# Altium integrated library Linear Technology Power Management LED Driver ICs.IntLib: 490 symbols (part 41 of 48)
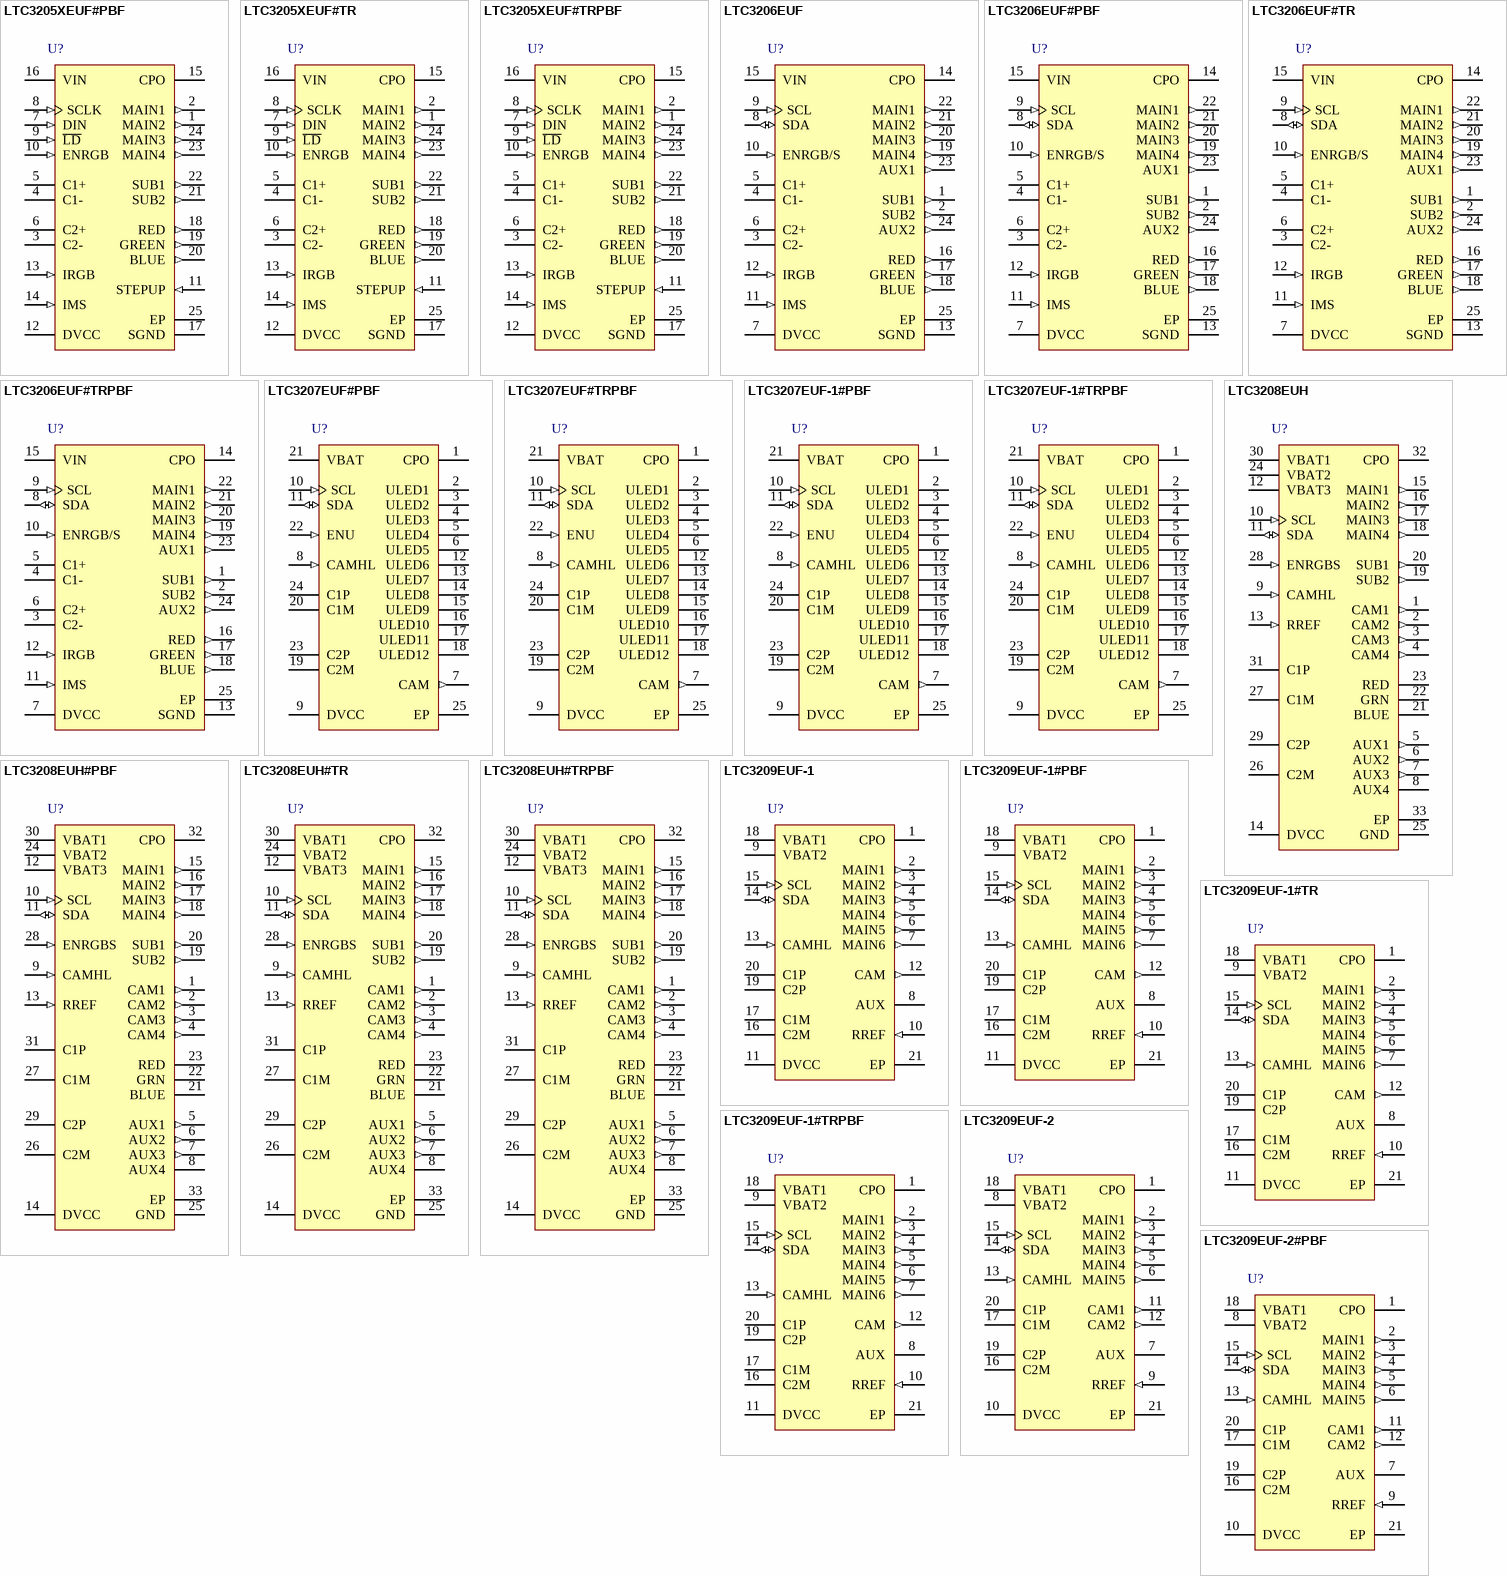
[diagram p60: symbols LTC3205XEUF#PBF to LTC3209EUF-2#PBF]

## LTC3209EUF-2
designator U?
600 mA MAIN / Camera LED Controller, 2.9 to 4.5 V Vin, 5.1 V Vout MAX, 20-pin QFN (UF-20), -40 to 85 degC; Manufacturer: Linear Technology; PartNumber: LTC3209EUF-2; Topology: Charge Pump, LED Driver; Vin Min(V): 2.9; DatasheetVersion: Rev. A; PackageVersion: Rev. A, 10/2010; PackageReference: UF20; PackageDescription: 20-Pin Plastic QFN, Body 4 x 4 mm, Pitch 0.5 mm; RoHS: FALSE; Mounting Technology: Surface Mount; Code_JEDEC: MO-220; ComponentLink1Description: Manufacturer URL; ComponentLink1URL: http://www.linear.com/; ComponentLink2Description: Datasheet; ComponentLink2URL: http://cds.linear.com/docs/en/datasheet/320912fa.pdf; ComponentLink3Description: Package Specification; ComponentLink3URL: http://cds.linear.com/docs/en/packaging/QFN_20_05-08-1710.pdf
footprint LT-UF-20_N (QFN, 20-Leads, Body 4.1x4.1mm, Pitch 0.5mm, Thermal Pad 2.45x2.45mm, IPC Medium Density)
footprint LT-UF-20_L (QFN, 20-Leads, Body 4.1x4.1mm, Pitch 0.5mm, Thermal Pad 2.45x2.45mm, IPC High Density)
footprint LT-UF-20_M (QFN, 20-Leads, Body 4.1x4.1mm, Pitch 0.5mm, Thermal Pad 2.45x2.45mm, IPC Low Density)
pins: 1 CPO (power) "Output of the Charge Pump Used to Power LEDs. A 2.2uF X5R or X7R ceramic capacitor should be connected to ground.", 2 MAIN1 (out) "Current Source Output for the MAIN Display White LED. The LEDs on the MAIN display can be set from 0mA to 28mA in 256 steps via software control and internal 8-bit linear DAC. Each output can be disabled externally by (See Datasheet)", 3 MAIN2 (out) "Current Source Output for the MAIN Display White LED. The LEDs on the MAIN display can be set from 0mA to 28mA in 256 steps via software control and internal 8-bit linear DAC. Each output can be disabled externally by (See Datasheet)", 4 MAIN3 (out) "Current Source Output for the MAIN Display White LED. The LEDs on the MAIN display can be set from 0mA to 28mA in 256 steps via software control and internal 8-bit linear DAC. Each output can be disabled externally by (See Datasheet)", 5 MAIN4 (out) "Current Source Output for the MAIN Display White LED. The LEDs on the MAIN display can be set from 0mA to 28mA in 256 steps via software control and internal 8-bit linear DAC. Each output can be disabled externally by (See Datasheet)", 6 MAIN5 (out) "Current Source Output for the MAIN Display White LED. The LEDs on the MAIN display can be set from 0mA to 28mA in 256 steps via software control and internal 8-bit linear DAC. Each output can be disabled externally by (See Datasheet)", 7 AUX (oc) "Current Source Output for the AUX Display LED. The LED current source can be set from 0mA to 13.75mA in 4 steps via software control and internal 2-bit DAC. AUX does not have dropout sensing and cannot be disabled by (See Datasheet)", 8 VBAT2 (power) "Supply Voltage for the Entire Device. Two separate pins are used to isolate the charge pump from the analog sections to reduce noise. Both pins must be connected together externally and bypassed with a single 2.2uF low ESR (See Datasheet)", 9 RREF (in) "This pin controls the maximum amount of LED current for all displays. The RREF voltage is 1.23V. An external 24.3k resistor to ground sets the reference currents for all display DACs and support circuits for nominal MAIN (See Datasheet)", 10 DVCC (power) "Supply Voltage for All Digital I/O Lines. This pin sets the logic reference level of the LTC3209-2. Decouple DVCC to GND with a 0.1uF capacitor. A UVLO circuit on the DVCC pin forces all registers to all 0s whenever DVCC is (See Datasheet)", 11 CAM1 (out) "Current Source Output for the CAM1 Display White LED. The LEDs on the two CAM displays can each be set from 0mA to 200mA in 16 steps via software control and internal 4-bit linear DAC. Two 4-bit registers are available. One (See Datasheet)", 12 CAM2 (out) "Current Source Output for the CAM2 Display White LED. The LEDs on the two CAM displays can each be set from 0mA to 200mA in 16 steps via software control and internal 4-bit linear DAC. Two 4-bit registers are available. One (See Datasheet)", 13 CAMHL (in) "This pin selects CAM high current register when asserted high and CAM low current register when low. The high to low transition automatically resets the charge pump mode to 1x.", 14 SDA (io) "I2C Data Input for the Serial Port. Serial data is shifted in one bit per clock to control the LTC3209-2. The logic level is referenced to DVCC.", 15 SCL (in) "I2C Clock Input. The logic level for SCL is referenced to DVCC.", 16 C2M "Charge Pump Flying Capacitor Pins. A 2.2uF X7R or X5R ceramic capacitor should be connected from C1P to C1M and C2P to C2M.", 17 C1M "Charge Pump Flying Capacitor Pins. A 2.2uF X7R or X5R ceramic capacitor should be connected from C1P to C1M and C2P to C2M.", 18 VBAT1 (power) "Supply Voltage for the Entire Device. Two separate pins are used to isolate the charge pump from the analog sections to reduce noise. Both pins must be connected together externally and bypassed with a single 2.2uF low ESR (See Datasheet)", 19 C2P "Charge Pump Flying Capacitor Pins. A 2.2uF X7R or X5R ceramic capacitor should be connected from C1P to C1M and C2P to C2M.", 20 C1P "Charge Pump Flying Capacitor Pins. A 2.2uF X7R or X5R ceramic capacitor should be connected from C1P to C1M and C2P to C2M.", 21 EP (power) "System Ground. Connect Exposed Pad to PCB ground plane."

## LTC3209EUF-2#PBF
designator U?
600 mA MAIN / Camera LED Controller, 2.9 to 4.5 V Vin, 5.1 V Vout MAX, 20-pin QFN (UF-20), -40 to 85 degC, Pb-Free; Manufacturer: Linear Technology; PartNumber: LTC3209EUF-2#PBF; Topology: Charge Pump, LED Driver; Vin Min(V): 2.9; DatasheetVersion: Rev. A; PackageVersion: Rev. A, 10/2010; PackageReference: UF20; PackageDescription: 20-Pin Plastic QFN, Body 4 x 4 mm, Pitch 0.5 mm; Supplier 1: Digi-Key; Supplier Part Number 1: LTC3209EUF-2#PBF-ND; RoHS: TRUE; Mounting Technology: Surface Mount; Code_JEDEC: MO-220; ComponentLink1Description: Manufacturer URL; ComponentLink1URL: http://www.linear.com/; ComponentLink2Description: Datasheet; ComponentLink2URL: http://cds.linear.com/docs/en/datasheet/320912fa.pdf; ComponentLink3Description: Package Specification; ComponentLink3URL: http://cds.linear.com/docs/en/packaging/QFN_20_05-08-1710.pdf
footprint LT-UF-20_N (QFN, 20-Leads, Body 4.1x4.1mm, Pitch 0.5mm, Thermal Pad 2.45x2.45mm, IPC Medium Density)
footprint LT-UF-20_L (QFN, 20-Leads, Body 4.1x4.1mm, Pitch 0.5mm, Thermal Pad 2.45x2.45mm, IPC High Density)
footprint LT-UF-20_M (QFN, 20-Leads, Body 4.1x4.1mm, Pitch 0.5mm, Thermal Pad 2.45x2.45mm, IPC Low Density)
pins: 1 CPO (power) "Output of the Charge Pump Used to Power LEDs. A 2.2uF X5R or X7R ceramic capacitor should be connected to ground.", 2 MAIN1 (out) "Current Source Output for the MAIN Display White LED. The LEDs on the MAIN display can be set from 0mA to 28mA in 256 steps via software control and internal 8-bit linear DAC. Each output can be disabled externally by (See Datasheet)", 3 MAIN2 (out) "Current Source Output for the MAIN Display White LED. The LEDs on the MAIN display can be set from 0mA to 28mA in 256 steps via software control and internal 8-bit linear DAC. Each output can be disabled externally by (See Datasheet)", 4 MAIN3 (out) "Current Source Output for the MAIN Display White LED. The LEDs on the MAIN display can be set from 0mA to 28mA in 256 steps via software control and internal 8-bit linear DAC. Each output can be disabled externally by (See Datasheet)", 5 MAIN4 (out) "Current Source Output for the MAIN Display White LED. The LEDs on the MAIN display can be set from 0mA to 28mA in 256 steps via software control and internal 8-bit linear DAC. Each output can be disabled externally by (See Datasheet)", 6 MAIN5 (out) "Current Source Output for the MAIN Display White LED. The LEDs on the MAIN display can be set from 0mA to 28mA in 256 steps via software control and internal 8-bit linear DAC. Each output can be disabled externally by (See Datasheet)", 7 AUX (oc) "Current Source Output for the AUX Display LED. The LED current source can be set from 0mA to 13.75mA in 4 steps via software control and internal 2-bit DAC. AUX does not have dropout sensing and cannot be disabled by (See Datasheet)", 8 VBAT2 (power) "Supply Voltage for the Entire Device. Two separate pins are used to isolate the charge pump from the analog sections to reduce noise. Both pins must be connected together externally and bypassed with a single 2.2uF low ESR (See Datasheet)", 9 RREF (in) "This pin controls the maximum amount of LED current for all displays. The RREF voltage is 1.23V. An external 24.3k resistor to ground sets the reference currents for all display DACs and support circuits for nominal MAIN (See Datasheet)", 10 DVCC (power) "Supply Voltage for All Digital I/O Lines. This pin sets the logic reference level of the LTC3209-2. Decouple DVCC to GND with a 0.1uF capacitor. A UVLO circuit on the DVCC pin forces all registers to all 0s whenever DVCC is (See Datasheet)", 11 CAM1 (out) "Current Source Output for the CAM1 Display White LED. The LEDs on the two CAM displays can each be set from 0mA to 200mA in 16 steps via software control and internal 4-bit linear DAC. Two 4-bit registers are available. One (See Datasheet)", 12 CAM2 (out) "Current Source Output for the CAM2 Display White LED. The LEDs on the two CAM displays can each be set from 0mA to 200mA in 16 steps via software control and internal 4-bit linear DAC. Two 4-bit registers are available. One (See Datasheet)", 13 CAMHL (in) "This pin selects CAM high current register when asserted high and CAM low current register when low. The high to low transition automatically resets the charge pump mode to 1x.", 14 SDA (io) "I2C Data Input for the Serial Port. Serial data is shifted in one bit per clock to control the LTC3209-2. The logic level is referenced to DVCC.", 15 SCL (in) "I2C Clock Input. The logic level for SCL is referenced to DVCC.", 16 C2M "Charge Pump Flying Capacitor Pins. A 2.2uF X7R or X5R ceramic capacitor should be connected from C1P to C1M and C2P to C2M.", 17 C1M "Charge Pump Flying Capacitor Pins. A 2.2uF X7R or X5R ceramic capacitor should be connected from C1P to C1M and C2P to C2M.", 18 VBAT1 (power) "Supply Voltage for the Entire Device. Two separate pins are used to isolate the charge pump from the analog sections to reduce noise. Both pins must be connected together externally and bypassed with a single 2.2uF low ESR (See Datasheet)", 19 C2P "Charge Pump Flying Capacitor Pins. A 2.2uF X7R or X5R ceramic capacitor should be connected from C1P to C1M and C2P to C2M.", 20 C1P "Charge Pump Flying Capacitor Pins. A 2.2uF X7R or X5R ceramic capacitor should be connected from C1P to C1M and C2P to C2M.", 21 EP (power) "System Ground. Connect Exposed Pad to PCB ground plane."

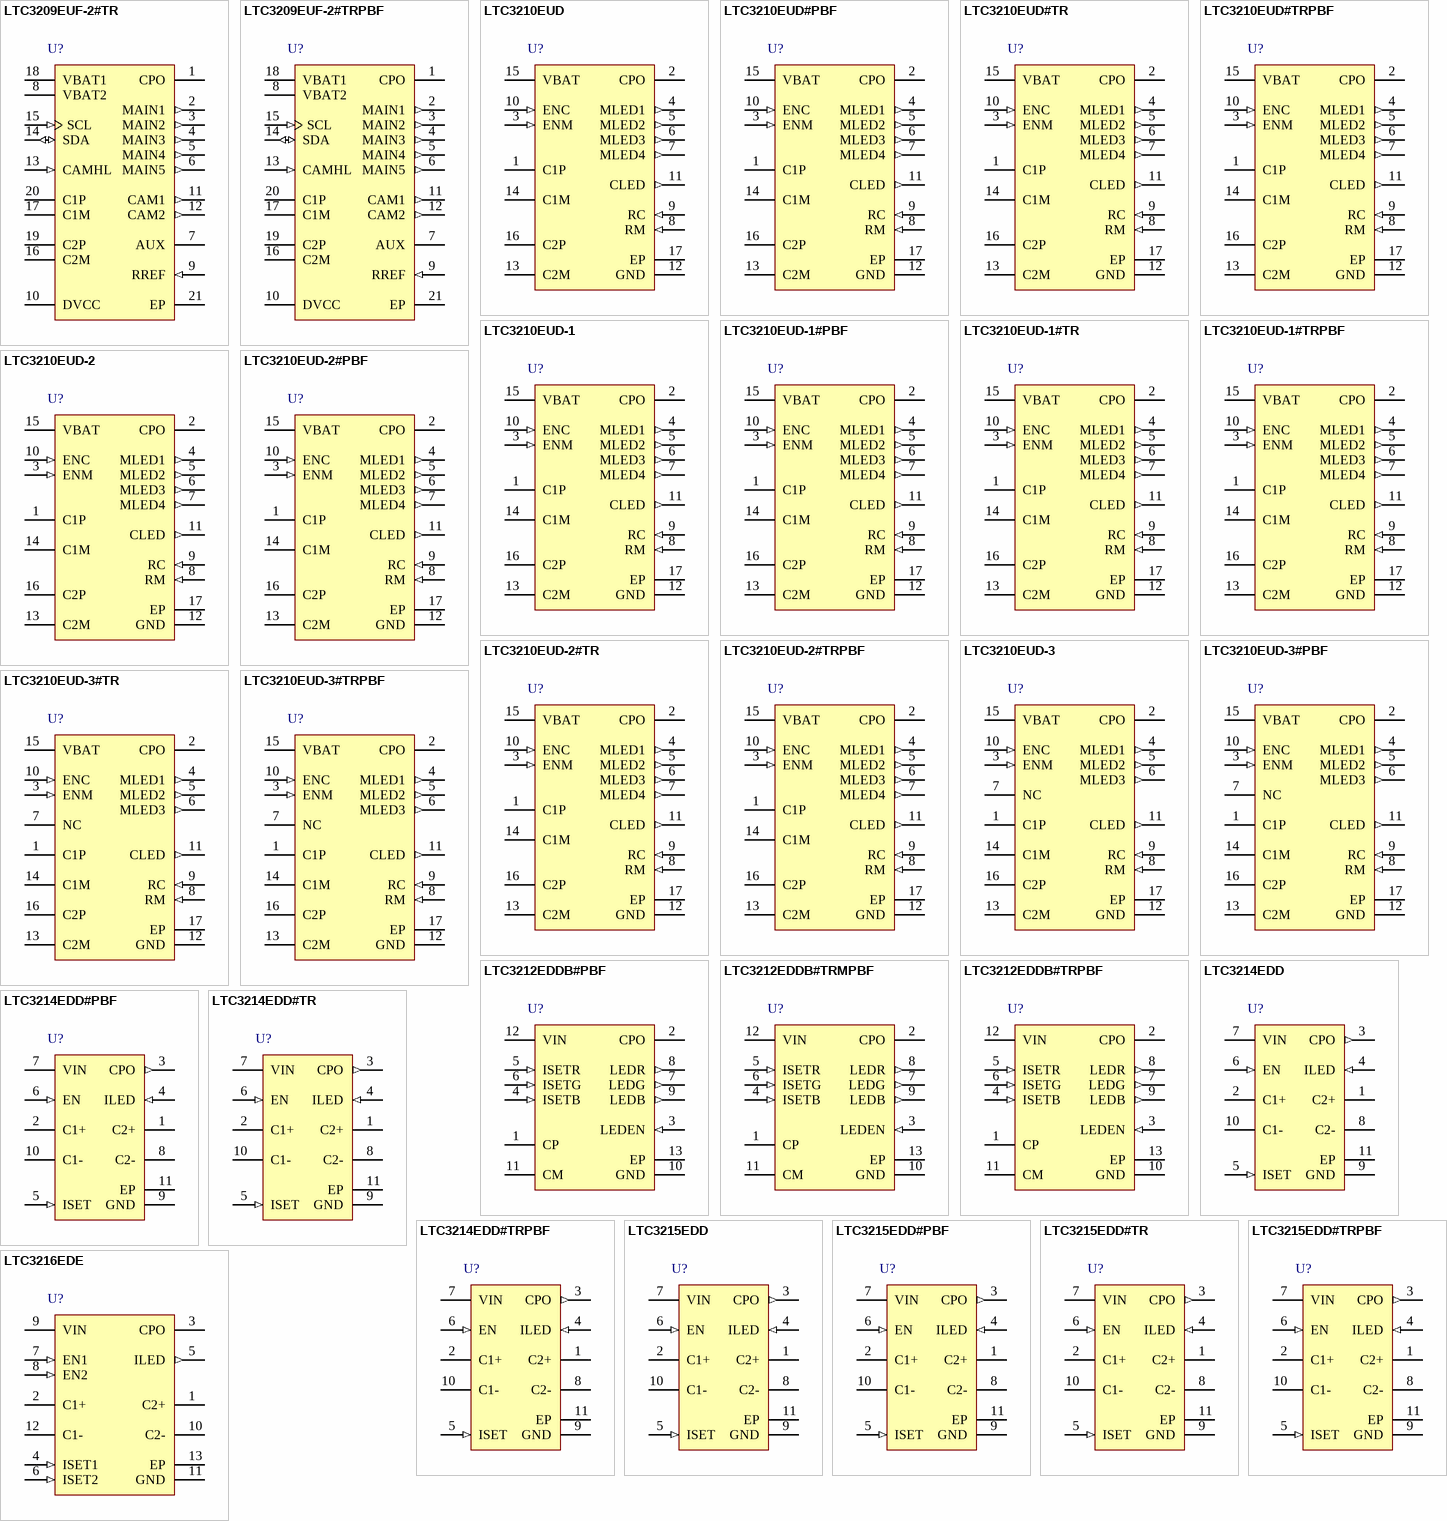
[diagram p17: symbols LTC3209EUF-2#TR to LTC3216EDE]

## LTC3209EUF-2#TR
designator U?
600 mA MAIN / Camera LED Controller, 2.9 to 4.5 V Vin, 5.1 V Vout MAX, 20-pin QFN (UF-20), -40 to 85 degC, Tape and Reel; Manufacturer: Linear Technology; PartNumber: LTC3209EUF-2#TR; Topology: Charge Pump, LED Driver; Vin Min(V): 2.9; DatasheetVersion: Rev. A; PackageVersion: Rev. A, 10/2010; PackageReference: UF20; PackageDescription: 20-Pin Plastic QFN, Body 4 x 4 mm, Pitch 0.5 mm; Packing: Tape and Reel; RoHS: FALSE; Mounting Technology: Surface Mount; Code_JEDEC: MO-220; ComponentLink1Description: Manufacturer URL; ComponentLink1URL: http://www.linear.com/; ComponentLink2Description: Datasheet; ComponentLink2URL: http://cds.linear.com/docs/en/datasheet/320912fa.pdf; ComponentLink3Description: Package Specification; ComponentLink3URL: http://cds.linear.com/docs/en/packaging/QFN_20_05-08-1710.pdf
footprint LT-UF-20_N (QFN, 20-Leads, Body 4.1x4.1mm, Pitch 0.5mm, Thermal Pad 2.45x2.45mm, IPC Medium Density)
footprint LT-UF-20_L (QFN, 20-Leads, Body 4.1x4.1mm, Pitch 0.5mm, Thermal Pad 2.45x2.45mm, IPC High Density)
footprint LT-UF-20_M (QFN, 20-Leads, Body 4.1x4.1mm, Pitch 0.5mm, Thermal Pad 2.45x2.45mm, IPC Low Density)
pins: 1 CPO (power) "Output of the Charge Pump Used to Power LEDs. A 2.2uF X5R or X7R ceramic capacitor should be connected to ground.", 2 MAIN1 (out) "Current Source Output for the MAIN Display White LED. The LEDs on the MAIN display can be set from 0mA to 28mA in 256 steps via software control and internal 8-bit linear DAC. Each output can be disabled externally by (See Datasheet)", 3 MAIN2 (out) "Current Source Output for the MAIN Display White LED. The LEDs on the MAIN display can be set from 0mA to 28mA in 256 steps via software control and internal 8-bit linear DAC. Each output can be disabled externally by (See Datasheet)", 4 MAIN3 (out) "Current Source Output for the MAIN Display White LED. The LEDs on the MAIN display can be set from 0mA to 28mA in 256 steps via software control and internal 8-bit linear DAC. Each output can be disabled externally by (See Datasheet)", 5 MAIN4 (out) "Current Source Output for the MAIN Display White LED. The LEDs on the MAIN display can be set from 0mA to 28mA in 256 steps via software control and internal 8-bit linear DAC. Each output can be disabled externally by (See Datasheet)", 6 MAIN5 (out) "Current Source Output for the MAIN Display White LED. The LEDs on the MAIN display can be set from 0mA to 28mA in 256 steps via software control and internal 8-bit linear DAC. Each output can be disabled externally by (See Datasheet)", 7 AUX (oc) "Current Source Output for the AUX Display LED. The LED current source can be set from 0mA to 13.75mA in 4 steps via software control and internal 2-bit DAC. AUX does not have dropout sensing and cannot be disabled by (See Datasheet)", 8 VBAT2 (power) "Supply Voltage for the Entire Device. Two separate pins are used to isolate the charge pump from the analog sections to reduce noise. Both pins must be connected together externally and bypassed with a single 2.2uF low ESR (See Datasheet)", 9 RREF (in) "This pin controls the maximum amount of LED current for all displays. The RREF voltage is 1.23V. An external 24.3k resistor to ground sets the reference currents for all display DACs and support circuits for nominal MAIN (See Datasheet)", 10 DVCC (power) "Supply Voltage for All Digital I/O Lines. This pin sets the logic reference level of the LTC3209-2. Decouple DVCC to GND with a 0.1uF capacitor. A UVLO circuit on the DVCC pin forces all registers to all 0s whenever DVCC is (See Datasheet)", 11 CAM1 (out) "Current Source Output for the CAM1 Display White LED. The LEDs on the two CAM displays can each be set from 0mA to 200mA in 16 steps via software control and internal 4-bit linear DAC. Two 4-bit registers are available. One (See Datasheet)", 12 CAM2 (out) "Current Source Output for the CAM2 Display White LED. The LEDs on the two CAM displays can each be set from 0mA to 200mA in 16 steps via software control and internal 4-bit linear DAC. Two 4-bit registers are available. One (See Datasheet)", 13 CAMHL (in) "This pin selects CAM high current register when asserted high and CAM low current register when low. The high to low transition automatically resets the charge pump mode to 1x.", 14 SDA (io) "I2C Data Input for the Serial Port. Serial data is shifted in one bit per clock to control the LTC3209-2. The logic level is referenced to DVCC.", 15 SCL (in) "I2C Clock Input. The logic level for SCL is referenced to DVCC.", 16 C2M "Charge Pump Flying Capacitor Pins. A 2.2uF X7R or X5R ceramic capacitor should be connected from C1P to C1M and C2P to C2M.", 17 C1M "Charge Pump Flying Capacitor Pins. A 2.2uF X7R or X5R ceramic capacitor should be connected from C1P to C1M and C2P to C2M.", 18 VBAT1 (power) "Supply Voltage for the Entire Device. Two separate pins are used to isolate the charge pump from the analog sections to reduce noise. Both pins must be connected together externally and bypassed with a single 2.2uF low ESR (See Datasheet)", 19 C2P "Charge Pump Flying Capacitor Pins. A 2.2uF X7R or X5R ceramic capacitor should be connected from C1P to C1M and C2P to C2M.", 20 C1P "Charge Pump Flying Capacitor Pins. A 2.2uF X7R or X5R ceramic capacitor should be connected from C1P to C1M and C2P to C2M.", 21 EP (power) "System Ground. Connect Exposed Pad to PCB ground plane."

## LTC3209EUF-2#TRPBF
designator U?
600 mA MAIN / Camera LED Controller, 2.9 to 4.5 V Vin, 5.1 V Vout MAX, 20-pin QFN (UF-20), -40 to 85 degC, Pb-Free, Tape and Reel; Manufacturer: Linear Technology; PartNumber: LTC3209EUF-2#TRPBF; Topology: Charge Pump, LED Driver; Vin Min(V): 2.9; DatasheetVersion: Rev. A; PackageVersion: Rev. A, 10/2010; PackageReference: UF20; PackageDescription: 20-Pin Plastic QFN, Body 4 x 4 mm, Pitch 0.5 mm; Supplier 1: Digi-Key; Supplier Part Number 1: LTC3209EUF-2#TRPBF-ND; Packing: Tape and Reel; RoHS: TRUE; Mounting Technology: Surface Mount; Code_JEDEC: MO-220; ComponentLink1Description: Manufacturer URL; ComponentLink1URL: http://www.linear.com/; ComponentLink2Description: Datasheet; ComponentLink2URL: http://cds.linear.com/docs/en/datasheet/320912fa.pdf; ComponentLink3Description: Package Specification; ComponentLink3URL: http://cds.linear.com/docs/en/packaging/QFN_20_05-08-1710.pdf
footprint LT-UF-20_N (QFN, 20-Leads, Body 4.1x4.1mm, Pitch 0.5mm, Thermal Pad 2.45x2.45mm, IPC Medium Density)
footprint LT-UF-20_L (QFN, 20-Leads, Body 4.1x4.1mm, Pitch 0.5mm, Thermal Pad 2.45x2.45mm, IPC High Density)
footprint LT-UF-20_M (QFN, 20-Leads, Body 4.1x4.1mm, Pitch 0.5mm, Thermal Pad 2.45x2.45mm, IPC Low Density)
pins: 1 CPO (power) "Output of the Charge Pump Used to Power LEDs. A 2.2uF X5R or X7R ceramic capacitor should be connected to ground.", 2 MAIN1 (out) "Current Source Output for the MAIN Display White LED. The LEDs on the MAIN display can be set from 0mA to 28mA in 256 steps via software control and internal 8-bit linear DAC. Each output can be disabled externally by (See Datasheet)", 3 MAIN2 (out) "Current Source Output for the MAIN Display White LED. The LEDs on the MAIN display can be set from 0mA to 28mA in 256 steps via software control and internal 8-bit linear DAC. Each output can be disabled externally by (See Datasheet)", 4 MAIN3 (out) "Current Source Output for the MAIN Display White LED. The LEDs on the MAIN display can be set from 0mA to 28mA in 256 steps via software control and internal 8-bit linear DAC. Each output can be disabled externally by (See Datasheet)", 5 MAIN4 (out) "Current Source Output for the MAIN Display White LED. The LEDs on the MAIN display can be set from 0mA to 28mA in 256 steps via software control and internal 8-bit linear DAC. Each output can be disabled externally by (See Datasheet)", 6 MAIN5 (out) "Current Source Output for the MAIN Display White LED. The LEDs on the MAIN display can be set from 0mA to 28mA in 256 steps via software control and internal 8-bit linear DAC. Each output can be disabled externally by (See Datasheet)", 7 AUX (oc) "Current Source Output for the AUX Display LED. The LED current source can be set from 0mA to 13.75mA in 4 steps via software control and internal 2-bit DAC. AUX does not have dropout sensing and cannot be disabled by (See Datasheet)", 8 VBAT2 (power) "Supply Voltage for the Entire Device. Two separate pins are used to isolate the charge pump from the analog sections to reduce noise. Both pins must be connected together externally and bypassed with a single 2.2uF low ESR (See Datasheet)", 9 RREF (in) "This pin controls the maximum amount of LED current for all displays. The RREF voltage is 1.23V. An external 24.3k resistor to ground sets the reference currents for all display DACs and support circuits for nominal MAIN (See Datasheet)", 10 DVCC (power) "Supply Voltage for All Digital I/O Lines. This pin sets the logic reference level of the LTC3209-2. Decouple DVCC to GND with a 0.1uF capacitor. A UVLO circuit on the DVCC pin forces all registers to all 0s whenever DVCC is (See Datasheet)", 11 CAM1 (out) "Current Source Output for the CAM1 Display White LED. The LEDs on the two CAM displays can each be set from 0mA to 200mA in 16 steps via software control and internal 4-bit linear DAC. Two 4-bit registers are available. One (See Datasheet)", 12 CAM2 (out) "Current Source Output for the CAM2 Display White LED. The LEDs on the two CAM displays can each be set from 0mA to 200mA in 16 steps via software control and internal 4-bit linear DAC. Two 4-bit registers are available. One (See Datasheet)", 13 CAMHL (in) "This pin selects CAM high current register when asserted high and CAM low current register when low. The high to low transition automatically resets the charge pump mode to 1x.", 14 SDA (io) "I2C Data Input for the Serial Port. Serial data is shifted in one bit per clock to control the LTC3209-2. The logic level is referenced to DVCC.", 15 SCL (in) "I2C Clock Input. The logic level for SCL is referenced to DVCC.", 16 C2M "Charge Pump Flying Capacitor Pins. A 2.2uF X7R or X5R ceramic capacitor should be connected from C1P to C1M and C2P to C2M.", 17 C1M "Charge Pump Flying Capacitor Pins. A 2.2uF X7R or X5R ceramic capacitor should be connected from C1P to C1M and C2P to C2M.", 18 VBAT1 (power) "Supply Voltage for the Entire Device. Two separate pins are used to isolate the charge pump from the analog sections to reduce noise. Both pins must be connected together externally and bypassed with a single 2.2uF low ESR (See Datasheet)", 19 C2P "Charge Pump Flying Capacitor Pins. A 2.2uF X7R or X5R ceramic capacitor should be connected from C1P to C1M and C2P to C2M.", 20 C1P "Charge Pump Flying Capacitor Pins. A 2.2uF X7R or X5R ceramic capacitor should be connected from C1P to C1M and C2P to C2M.", 21 EP (power) "System Ground. Connect Exposed Pad to PCB ground plane."

## LTC3210EUD
designator U?
MAIN / CAM LED Controller, 2.9 to 4.5 V Vin, 16-pin QFN (UD-16), -40 to 85 degC; Manufacturer: Linear Technology; PartNumber: LTC3210EUD; Topology: Charge Pump, LED Driver; Vin Min(V): 2.9; DatasheetVersion: Rev. B; PackageVersion: Jun-10; PackageReference: UD-16; PackageDescription: 16-Pin Plastic QFN, Body 3 x 3 mm, Pitch 0.5 mm; RoHS: FALSE; Mounting Technology: Surface Mount; Code_JEDEC: MO-220; ComponentLink1Description: Manufacturer URL; ComponentLink1URL: http://www.linear.com/; ComponentLink2Description: Datasheet; ComponentLink2URL: http://cds.linear.com/docs/en/datasheet/3210fb.pdf; ComponentLink3Description: Package Specification; ComponentLink3URL: http://cds.linear.com/docs/en/packaging/QFN_16_05-08-1691.pdf
footprint LT-UD-16_N (QFN, 16-Leads, Body 3x3mm, Pitch 0.5mm, Thermal Pad 1.45x1.45mm, IPC Medium Density)
footprint LT-UD-16_L (QFN, 16-Leads, Body 3x3mm, Pitch 0.5mm, Thermal Pad 1.45x1.45mm, IPC High Density)
footprint LT-UD-16_M (QFN, 16-Leads, Body 3x3mm, Pitch 0.5mm, Thermal Pad 1.45x1.45mm, IPC Low Density)
pins: 1 C1P "Charge Pump Flying Capacitor Pins. A 2.2uF X7R or X5R ceramic capacitor should be connected from C1P to C1M and C2P to C2M", 2 CPO (power) "Output of the Charge Pump Used to Power All LEDs. This pin is enabled or disabled using the ENM and ENC inputs. A 2.2uF X5R or X7R ceramic capacitor should be connected to ground.", 3 ENM (in) "Inputs. The ENM and ENC pins are used to program the LED output currents. Each input is strobed up to 7 times to decrement the internal 3-bit DACs from full-scale to 1LSB. The counter will stop at 1 LSB if the strobing (See Datasheet)", 4 MLED1 (out) "Outputs. MLED1 to MLED4 are the MAIN current source outputs. The LEDs are connected between CPO (anodes) and MLED1-4 (cathodes). The current to each LED output is set via the ENM input, and the programming resistor connected (See Datasheet)", 5 MLED2 (out) "Outputs. MLED1 to MLED4 are the MAIN current source outputs. The LEDs are connected between CPO (anodes) and MLED1-4 (cathodes). The current to each LED output is set via the ENM input, and the programming resistor connected (See Datasheet)", 6 MLED3 (out) "Outputs. MLED1 to MLED4 are the MAIN current source outputs. The LEDs are connected between CPO (anodes) and MLED1-4 (cathodes). The current to each LED output is set via the ENM input, and the programming resistor connected (See Datasheet)", 7 MLED4 (out) "Outputs. MLED1 to MLED4 are the MAIN current source outputs. The LEDs are connected between CPO (anodes) and MLED1-4 (cathodes). The current to each LED output is set via the ENM input, and the programming resistor connected (See Datasheet)", 8 RM (in) "LED Current Programming Resistor Pins. The RM and RC pins will servo to 1.2V. Resistors connected between each of these pins and GND are used to set the CLED and MLED current levels. Connecting a resistor 12k or less will (See Datasheet)", 9 RC (in) "LED Current Programming Resistor Pins. The RM and RC pins will servo to 1.2V. Resistors connected between each of these pins and GND are used to set the CLED and MLED current levels. Connecting a resistor 12k or less will (See Datasheet)", 10 ENC (in) "Inputs. The ENM and ENC pins are used to program the LED output currents. Each input is strobed up to 7 times to decrement the internal 3-bit DACs from full-scale to 1LSB. The counter will stop at 1 LSB if the strobing (See Datasheet)", 11 CLED (out) "Output. CLED is the CAM current source output. The LED is connected between CPO (anode) and CLED (cathode). The current to the LED output is set via the ENC input, and the programming resistor connected between RC and GND.", 12 GND (power) "Ground. This pin should be connected to a low impedance ground plane.", 13 C2M "Charge Pump Flying Capacitor Pins. A 2.2uF X7R or X5R ceramic capacitor should be connected from C1P to C1M and C2P to C2M", 14 C1M "Charge Pump Flying Capacitor Pins. A 2.2uF X7R or X5R ceramic capacitor should be connected from C1P to C1M and C2P to C2M", 15 VBAT (power) "Supply voltage. This pin should be bypassed with a 2.2uF, or greater low ESR ceramic capacitor.", 16 C2P "Charge Pump Flying Capacitor Pins. A 2.2uF X7R or X5R ceramic capacitor should be connected from C1P to C1M and C2P to C2M", 17 EP (power) "This pad should be connected directly to a low impedance ground plane for optimal thermal and electrical performance."

## LTC3210EUD#PBF
designator U?
MAIN / CAM LED Controller, 2.9 to 4.5 V Vin, 16-pin QFN (UD-16), -40 to 85 degC, Pb-Free; Manufacturer: Linear Technology; PartNumber: LTC3210EUD#PBF; Topology: Charge Pump, LED Driver; Vin Min(V): 2.9; DatasheetVersion: Rev. B; PackageVersion: Jun-10; PackageReference: UD-16; PackageDescription: 16-Pin Plastic QFN, Body 3 x 3 mm, Pitch 0.5 mm; Supplier 1: Digi-Key; Supplier Part Number 1: LTC3210EUD#PBF-ND; RoHS: TRUE; Mounting Technology: Surface Mount; Code_JEDEC: MO-220; ComponentLink1Description: Manufacturer URL; ComponentLink1URL: http://www.linear.com/; ComponentLink2Description: Datasheet; ComponentLink2URL: http://cds.linear.com/docs/en/datasheet/3210fb.pdf; ComponentLink3Description: Package Specification; ComponentLink3URL: http://cds.linear.com/docs/en/packaging/QFN_16_05-08-1691.pdf
footprint LT-UD-16_N (QFN, 16-Leads, Body 3x3mm, Pitch 0.5mm, Thermal Pad 1.45x1.45mm, IPC Medium Density)
footprint LT-UD-16_L (QFN, 16-Leads, Body 3x3mm, Pitch 0.5mm, Thermal Pad 1.45x1.45mm, IPC High Density)
footprint LT-UD-16_M (QFN, 16-Leads, Body 3x3mm, Pitch 0.5mm, Thermal Pad 1.45x1.45mm, IPC Low Density)
pins: 1 C1P "Charge Pump Flying Capacitor Pins. A 2.2uF X7R or X5R ceramic capacitor should be connected from C1P to C1M and C2P to C2M", 2 CPO (power) "Output of the Charge Pump Used to Power All LEDs. This pin is enabled or disabled using the ENM and ENC inputs. A 2.2uF X5R or X7R ceramic capacitor should be connected to ground.", 3 ENM (in) "Inputs. The ENM and ENC pins are used to program the LED output currents. Each input is strobed up to 7 times to decrement the internal 3-bit DACs from full-scale to 1LSB. The counter will stop at 1 LSB if the strobing (See Datasheet)", 4 MLED1 (out) "Outputs. MLED1 to MLED4 are the MAIN current source outputs. The LEDs are connected between CPO (anodes) and MLED1-4 (cathodes). The current to each LED output is set via the ENM input, and the programming resistor connected (See Datasheet)", 5 MLED2 (out) "Outputs. MLED1 to MLED4 are the MAIN current source outputs. The LEDs are connected between CPO (anodes) and MLED1-4 (cathodes). The current to each LED output is set via the ENM input, and the programming resistor connected (See Datasheet)", 6 MLED3 (out) "Outputs. MLED1 to MLED4 are the MAIN current source outputs. The LEDs are connected between CPO (anodes) and MLED1-4 (cathodes). The current to each LED output is set via the ENM input, and the programming resistor connected (See Datasheet)", 7 MLED4 (out) "Outputs. MLED1 to MLED4 are the MAIN current source outputs. The LEDs are connected between CPO (anodes) and MLED1-4 (cathodes). The current to each LED output is set via the ENM input, and the programming resistor connected (See Datasheet)", 8 RM (in) "LED Current Programming Resistor Pins. The RM and RC pins will servo to 1.2V. Resistors connected between each of these pins and GND are used to set the CLED and MLED current levels. Connecting a resistor 12k or less will (See Datasheet)", 9 RC (in) "LED Current Programming Resistor Pins. The RM and RC pins will servo to 1.2V. Resistors connected between each of these pins and GND are used to set the CLED and MLED current levels. Connecting a resistor 12k or less will (See Datasheet)", 10 ENC (in) "Inputs. The ENM and ENC pins are used to program the LED output currents. Each input is strobed up to 7 times to decrement the internal 3-bit DACs from full-scale to 1LSB. The counter will stop at 1 LSB if the strobing (See Datasheet)", 11 CLED (out) "Output. CLED is the CAM current source output. The LED is connected between CPO (anode) and CLED (cathode). The current to the LED output is set via the ENC input, and the programming resistor connected between RC and GND.", 12 GND (power) "Ground. This pin should be connected to a low impedance ground plane.", 13 C2M "Charge Pump Flying Capacitor Pins. A 2.2uF X7R or X5R ceramic capacitor should be connected from C1P to C1M and C2P to C2M", 14 C1M "Charge Pump Flying Capacitor Pins. A 2.2uF X7R or X5R ceramic capacitor should be connected from C1P to C1M and C2P to C2M", 15 VBAT (power) "Supply voltage. This pin should be bypassed with a 2.2uF, or greater low ESR ceramic capacitor.", 16 C2P "Charge Pump Flying Capacitor Pins. A 2.2uF X7R or X5R ceramic capacitor should be connected from C1P to C1M and C2P to C2M", 17 EP (power) "This pad should be connected directly to a low impedance ground plane for optimal thermal and electrical performance."

## LTC3210EUD#TR
designator U?
MAIN / CAM LED Controller, 2.9 to 4.5 V Vin, 16-pin QFN (UD-16), -40 to 85 degC, Tape and Reel; Manufacturer: Linear Technology; PartNumber: LTC3210EUD#TR; Topology: Charge Pump, LED Driver; Vin Min(V): 2.9; DatasheetVersion: Rev. B; PackageVersion: Jun-10; PackageReference: UD-16; PackageDescription: 16-Pin Plastic QFN, Body 3 x 3 mm, Pitch 0.5 mm; Packing: Tape and Reel; RoHS: FALSE; Mounting Technology: Surface Mount; Code_JEDEC: MO-220; ComponentLink1Description: Manufacturer URL; ComponentLink1URL: http://www.linear.com/; ComponentLink2Description: Datasheet; ComponentLink2URL: http://cds.linear.com/docs/en/datasheet/3210fb.pdf; ComponentLink3Description: Package Specification; ComponentLink3URL: http://cds.linear.com/docs/en/packaging/QFN_16_05-08-1691.pdf
footprint LT-UD-16_N (QFN, 16-Leads, Body 3x3mm, Pitch 0.5mm, Thermal Pad 1.45x1.45mm, IPC Medium Density)
footprint LT-UD-16_L (QFN, 16-Leads, Body 3x3mm, Pitch 0.5mm, Thermal Pad 1.45x1.45mm, IPC High Density)
footprint LT-UD-16_M (QFN, 16-Leads, Body 3x3mm, Pitch 0.5mm, Thermal Pad 1.45x1.45mm, IPC Low Density)
pins: 1 C1P "Charge Pump Flying Capacitor Pins. A 2.2uF X7R or X5R ceramic capacitor should be connected from C1P to C1M and C2P to C2M", 2 CPO (power) "Output of the Charge Pump Used to Power All LEDs. This pin is enabled or disabled using the ENM and ENC inputs. A 2.2uF X5R or X7R ceramic capacitor should be connected to ground.", 3 ENM (in) "Inputs. The ENM and ENC pins are used to program the LED output currents. Each input is strobed up to 7 times to decrement the internal 3-bit DACs from full-scale to 1LSB. The counter will stop at 1 LSB if the strobing (See Datasheet)", 4 MLED1 (out) "Outputs. MLED1 to MLED4 are the MAIN current source outputs. The LEDs are connected between CPO (anodes) and MLED1-4 (cathodes). The current to each LED output is set via the ENM input, and the programming resistor connected (See Datasheet)", 5 MLED2 (out) "Outputs. MLED1 to MLED4 are the MAIN current source outputs. The LEDs are connected between CPO (anodes) and MLED1-4 (cathodes). The current to each LED output is set via the ENM input, and the programming resistor connected (See Datasheet)", 6 MLED3 (out) "Outputs. MLED1 to MLED4 are the MAIN current source outputs. The LEDs are connected between CPO (anodes) and MLED1-4 (cathodes). The current to each LED output is set via the ENM input, and the programming resistor connected (See Datasheet)", 7 MLED4 (out) "Outputs. MLED1 to MLED4 are the MAIN current source outputs. The LEDs are connected between CPO (anodes) and MLED1-4 (cathodes). The current to each LED output is set via the ENM input, and the programming resistor connected (See Datasheet)", 8 RM (in) "LED Current Programming Resistor Pins. The RM and RC pins will servo to 1.2V. Resistors connected between each of these pins and GND are used to set the CLED and MLED current levels. Connecting a resistor 12k or less will (See Datasheet)", 9 RC (in) "LED Current Programming Resistor Pins. The RM and RC pins will servo to 1.2V. Resistors connected between each of these pins and GND are used to set the CLED and MLED current levels. Connecting a resistor 12k or less will (See Datasheet)", 10 ENC (in) "Inputs. The ENM and ENC pins are used to program the LED output currents. Each input is strobed up to 7 times to decrement the internal 3-bit DACs from full-scale to 1LSB. The counter will stop at 1 LSB if the strobing (See Datasheet)", 11 CLED (out) "Output. CLED is the CAM current source output. The LED is connected between CPO (anode) and CLED (cathode). The current to the LED output is set via the ENC input, and the programming resistor connected between RC and GND.", 12 GND (power) "Ground. This pin should be connected to a low impedance ground plane.", 13 C2M "Charge Pump Flying Capacitor Pins. A 2.2uF X7R or X5R ceramic capacitor should be connected from C1P to C1M and C2P to C2M", 14 C1M "Charge Pump Flying Capacitor Pins. A 2.2uF X7R or X5R ceramic capacitor should be connected from C1P to C1M and C2P to C2M", 15 VBAT (power) "Supply voltage. This pin should be bypassed with a 2.2uF, or greater low ESR ceramic capacitor.", 16 C2P "Charge Pump Flying Capacitor Pins. A 2.2uF X7R or X5R ceramic capacitor should be connected from C1P to C1M and C2P to C2M", 17 EP (power) "This pad should be connected directly to a low impedance ground plane for optimal thermal and electrical performance."

## LTC3210EUD#TRPBF
designator U?
MAIN / CAM LED Controller, 2.9 to 4.5 V Vin, 16-pin QFN (UD-16), -40 to 85 degC, Pb-Free, Tape and Reel; Manufacturer: Linear Technology; PartNumber: LTC3210EUD#TRPBF; Topology: Charge Pump, LED Driver; Vin Min(V): 2.9; DatasheetVersion: Rev. B; PackageVersion: Jun-10; PackageReference: UD-16; PackageDescription: 16-Pin Plastic QFN, Body 3 x 3 mm, Pitch 0.5 mm; Supplier 1: Digi-Key; Supplier Part Number 1: LTC3210EUD#TRPBF-ND; Packing: Tape and Reel; RoHS: TRUE; Mounting Technology: Surface Mount; Code_JEDEC: MO-220; ComponentLink1Description: Manufacturer URL; ComponentLink1URL: http://www.linear.com/; ComponentLink2Description: Datasheet; ComponentLink2URL: http://cds.linear.com/docs/en/datasheet/3210fb.pdf; ComponentLink3Description: Package Specification; ComponentLink3URL: http://cds.linear.com/docs/en/packaging/QFN_16_05-08-1691.pdf
footprint LT-UD-16_N (QFN, 16-Leads, Body 3x3mm, Pitch 0.5mm, Thermal Pad 1.45x1.45mm, IPC Medium Density)
footprint LT-UD-16_L (QFN, 16-Leads, Body 3x3mm, Pitch 0.5mm, Thermal Pad 1.45x1.45mm, IPC High Density)
footprint LT-UD-16_M (QFN, 16-Leads, Body 3x3mm, Pitch 0.5mm, Thermal Pad 1.45x1.45mm, IPC Low Density)
pins: 1 C1P "Charge Pump Flying Capacitor Pins. A 2.2uF X7R or X5R ceramic capacitor should be connected from C1P to C1M and C2P to C2M", 2 CPO (power) "Output of the Charge Pump Used to Power All LEDs. This pin is enabled or disabled using the ENM and ENC inputs. A 2.2uF X5R or X7R ceramic capacitor should be connected to ground.", 3 ENM (in) "Inputs. The ENM and ENC pins are used to program the LED output currents. Each input is strobed up to 7 times to decrement the internal 3-bit DACs from full-scale to 1LSB. The counter will stop at 1 LSB if the strobing (See Datasheet)", 4 MLED1 (out) "Outputs. MLED1 to MLED4 are the MAIN current source outputs. The LEDs are connected between CPO (anodes) and MLED1-4 (cathodes). The current to each LED output is set via the ENM input, and the programming resistor connected (See Datasheet)", 5 MLED2 (out) "Outputs. MLED1 to MLED4 are the MAIN current source outputs. The LEDs are connected between CPO (anodes) and MLED1-4 (cathodes). The current to each LED output is set via the ENM input, and the programming resistor connected (See Datasheet)", 6 MLED3 (out) "Outputs. MLED1 to MLED4 are the MAIN current source outputs. The LEDs are connected between CPO (anodes) and MLED1-4 (cathodes). The current to each LED output is set via the ENM input, and the programming resistor connected (See Datasheet)", 7 MLED4 (out) "Outputs. MLED1 to MLED4 are the MAIN current source outputs. The LEDs are connected between CPO (anodes) and MLED1-4 (cathodes). The current to each LED output is set via the ENM input, and the programming resistor connected (See Datasheet)", 8 RM (in) "LED Current Programming Resistor Pins. The RM and RC pins will servo to 1.2V. Resistors connected between each of these pins and GND are used to set the CLED and MLED current levels. Connecting a resistor 12k or less will (See Datasheet)", 9 RC (in) "LED Current Programming Resistor Pins. The RM and RC pins will servo to 1.2V. Resistors connected between each of these pins and GND are used to set the CLED and MLED current levels. Connecting a resistor 12k or less will (See Datasheet)", 10 ENC (in) "Inputs. The ENM and ENC pins are used to program the LED output currents. Each input is strobed up to 7 times to decrement the internal 3-bit DACs from full-scale to 1LSB. The counter will stop at 1 LSB if the strobing (See Datasheet)", 11 CLED (out) "Output. CLED is the CAM current source output. The LED is connected between CPO (anode) and CLED (cathode). The current to the LED output is set via the ENC input, and the programming resistor connected between RC and GND.", 12 GND (power) "Ground. This pin should be connected to a low impedance ground plane.", 13 C2M "Charge Pump Flying Capacitor Pins. A 2.2uF X7R or X5R ceramic capacitor should be connected from C1P to C1M and C2P to C2M", 14 C1M "Charge Pump Flying Capacitor Pins. A 2.2uF X7R or X5R ceramic capacitor should be connected from C1P to C1M and C2P to C2M", 15 VBAT (power) "Supply voltage. This pin should be bypassed with a 2.2uF, or greater low ESR ceramic capacitor.", 16 C2P "Charge Pump Flying Capacitor Pins. A 2.2uF X7R or X5R ceramic capacitor should be connected from C1P to C1M and C2P to C2M", 17 EP (power) "This pad should be connected directly to a low impedance ground plane for optimal thermal and electrical performance."

## LTC3210EUD-1
designator U?
MAIN / CAM LED Controller with 64-Step Brightness Control, 2.9 to 4.5 V Vin, 16-pin QFN (UD-16), -40 to 85 degC; Manufacturer: Linear Technology; PartNumber: LTC3210EUD-1; Topology: Charge Pump, LED Driver; Vin Min(V): 2.9; DatasheetVersion: Rev. D; PackageVersion: Jun-10; PackageReference: UD-16; PackageDescription: 16-Pin Plastic QFN, Body 3 x 3 mm, Pitch 0.5 mm; RoHS: FALSE; Mounting Technology: Surface Mount; Code_JEDEC: MO-220; ComponentLink1Description: Manufacturer URL; ComponentLink1URL: http://www.linear.com/; ComponentLink2Description: Datasheet; ComponentLink2URL: http://cds.linear.com/docs/en/datasheet/32101fd.pdf; ComponentLink3Description: Package Specification; ComponentLink3URL: http://cds.linear.com/docs/en/packaging/QFN_16_05-08-1691.pdf
footprint LT-UD-16_N (QFN, 16-Leads, Body 3x3mm, Pitch 0.5mm, Thermal Pad 1.45x1.45mm, IPC Medium Density)
footprint LT-UD-16_L (QFN, 16-Leads, Body 3x3mm, Pitch 0.5mm, Thermal Pad 1.45x1.45mm, IPC High Density)
footprint LT-UD-16_M (QFN, 16-Leads, Body 3x3mm, Pitch 0.5mm, Thermal Pad 1.45x1.45mm, IPC Low Density)
pins: 1 C1P "Charge Pump Flying Capacitor Pins. A 2.2uF X7R or X5R ceramic capacitor should be connected from C1P to C1M and C2P to C2M.", 2 CPO (power) "Output of the Charge Pump Used to Power All LEDs. This pin is enabled or disabled using the ENM and ENC inputs. A 2.2uF X5R or X7R ceramic capacitor should be connected to ground.", 3 ENM (in) "Inputs. The ENM and ENC pins are used to program the LED output currents. The ENC pin is strobed up to 7 times to decrement the internal 3-bit DAC’s from full-scale to 1 LSB. The ENM pin is strobed 63 times to decremen(See Datasheet)", 4 MLED1 (out), 5 MLED2 (out), 6 MLED3 (out), 7 MLED4 (out), 8 RM (in) "LED Current Programming Resistor Pins. The RM and RC pins will servo to 1.22V. Resistors connected between each of these pins and GND are used to set the high and low LED current levels. Connecting a resistor 12k or less (See Datasheet)", 9 RC (in) "LED Current Programming Resistor Pins. The RM and RC pins will servo to 1.22V. Resistors connected between each of these pins and GND are used to set the high and low LED current levels. Connecting a resistor 12k or less (See Datasheet)", 10 ENC (in) "Inputs. The ENM and ENC pins are used to program the LED output currents. The ENC pin is strobed up to 7 times to decrement the internal 3-bit DAC’s from full-scale to 1 LSB. The ENM pin is strobed 63 times to decremen(See Datasheet)", 11 CLED (out) "Output. CLED is the CAM current source output. The LED is connected between CPO (anode) and CLED (cathode). The current to the LED output is set via the ENC input, and the programming resistor connected between RC and GND.", 12 GND (power) "Ground. This pin should be connected to a low impedance ground plane", 13 C2M "Charge Pump Flying Capacitor Pins. A 2.2uF X7R or X5R ceramic capacitor should be connected from C1P to C1M and C2P to C2M.", 14 C1M "Charge Pump Flying Capacitor Pins. A 2.2uF X7R or X5R ceramic capacitor should be connected from C1P to C1M and C2P to C2M.", 15 VBAT (power) "Supply voltage. This pin should be bypassed with a 2.2uF, or greater low ESR ceramic capacitor", 16 C2P "Charge Pump Flying Capacitor Pins. A 2.2uF X7R or X5R ceramic capacitor should be connected from C1P to C1M and C2P to C2M.", 17 EP (power) "This pad should be connected directly to a low impedance ground plane for optimal thermal and electrical performance"

## LTC3210EUD-1#PBF
designator U?
MAIN / CAM LED Controller with 64-Step Brightness Control, 2.9 to 4.5 V Vin, 16-pin QFN (UD-16), -40 to 85 degC, Pb-Free; Manufacturer: Linear Technology; PartNumber: LTC3210EUD-1#PBF; Topology: Charge Pump, LED Driver; Vin Min(V): 2.9; DatasheetVersion: Rev. D; PackageVersion: Jun-10; PackageReference: UD-16; PackageDescription: 16-Pin Plastic QFN, Body 3 x 3 mm, Pitch 0.5 mm; Supplier 1: Digi-Key; Supplier Part Number 1: LTC3210EUD-1#PBF-ND; RoHS: TRUE; Mounting Technology: Surface Mount; Code_JEDEC: MO-220; ComponentLink1Description: Manufacturer URL; ComponentLink1URL: http://www.linear.com/; ComponentLink2Description: Datasheet; ComponentLink2URL: http://cds.linear.com/docs/en/datasheet/32101fd.pdf; ComponentLink3Description: Package Specification; ComponentLink3URL: http://cds.linear.com/docs/en/packaging/QFN_16_05-08-1691.pdf
footprint LT-UD-16_N (QFN, 16-Leads, Body 3x3mm, Pitch 0.5mm, Thermal Pad 1.45x1.45mm, IPC Medium Density)
footprint LT-UD-16_L (QFN, 16-Leads, Body 3x3mm, Pitch 0.5mm, Thermal Pad 1.45x1.45mm, IPC High Density)
footprint LT-UD-16_M (QFN, 16-Leads, Body 3x3mm, Pitch 0.5mm, Thermal Pad 1.45x1.45mm, IPC Low Density)
pins: 1 C1P "Charge Pump Flying Capacitor Pins. A 2.2uF X7R or X5R ceramic capacitor should be connected from C1P to C1M and C2P to C2M.", 2 CPO (power) "Output of the Charge Pump Used to Power All LEDs. This pin is enabled or disabled using the ENM and ENC inputs. A 2.2uF X5R or X7R ceramic capacitor should be connected to ground.", 3 ENM (in) "Inputs. The ENM and ENC pins are used to program the LED output currents. The ENC pin is strobed up to 7 times to decrement the internal 3-bit DAC’s from full-scale to 1 LSB. The ENM pin is strobed 63 times to decremen(See Datasheet)", 4 MLED1 (out), 5 MLED2 (out), 6 MLED3 (out), 7 MLED4 (out), 8 RM (in) "LED Current Programming Resistor Pins. The RM and RC pins will servo to 1.22V. Resistors connected between each of these pins and GND are used to set the high and low LED current levels. Connecting a resistor 12k or less (See Datasheet)", 9 RC (in) "LED Current Programming Resistor Pins. The RM and RC pins will servo to 1.22V. Resistors connected between each of these pins and GND are used to set the high and low LED current levels. Connecting a resistor 12k or less (See Datasheet)", 10 ENC (in) "Inputs. The ENM and ENC pins are used to program the LED output currents. The ENC pin is strobed up to 7 times to decrement the internal 3-bit DAC’s from full-scale to 1 LSB. The ENM pin is strobed 63 times to decremen(See Datasheet)", 11 CLED (out) "Output. CLED is the CAM current source output. The LED is connected between CPO (anode) and CLED (cathode). The current to the LED output is set via the ENC input, and the programming resistor connected between RC and GND.", 12 GND (power) "Ground. This pin should be connected to a low impedance ground plane", 13 C2M "Charge Pump Flying Capacitor Pins. A 2.2uF X7R or X5R ceramic capacitor should be connected from C1P to C1M and C2P to C2M.", 14 C1M "Charge Pump Flying Capacitor Pins. A 2.2uF X7R or X5R ceramic capacitor should be connected from C1P to C1M and C2P to C2M.", 15 VBAT (power) "Supply voltage. This pin should be bypassed with a 2.2uF, or greater low ESR ceramic capacitor", 16 C2P "Charge Pump Flying Capacitor Pins. A 2.2uF X7R or X5R ceramic capacitor should be connected from C1P to C1M and C2P to C2M.", 17 EP (power) "This pad should be connected directly to a low impedance ground plane for optimal thermal and electrical performance"